# Altium schematic symbol library resistor_RC0100.SchLib: 1 symbol
Pins are listed as number, name and electrical type; pins without a type are passive.

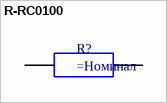
[diagram p0: symbol R-RC0100]

## R-RC0100
designator R?
=Описание; ComponentLink1Description: datasheet; ComponentLink1URL: https://www.yageo.com/upload/media/product/products/datasheet/rchip/PYu-RC_Group_51_RoHS_L_11.pdf
pins: 1, 2